# EAGLE library part XBP9B-DMUT-002 (library clackboard_lib)
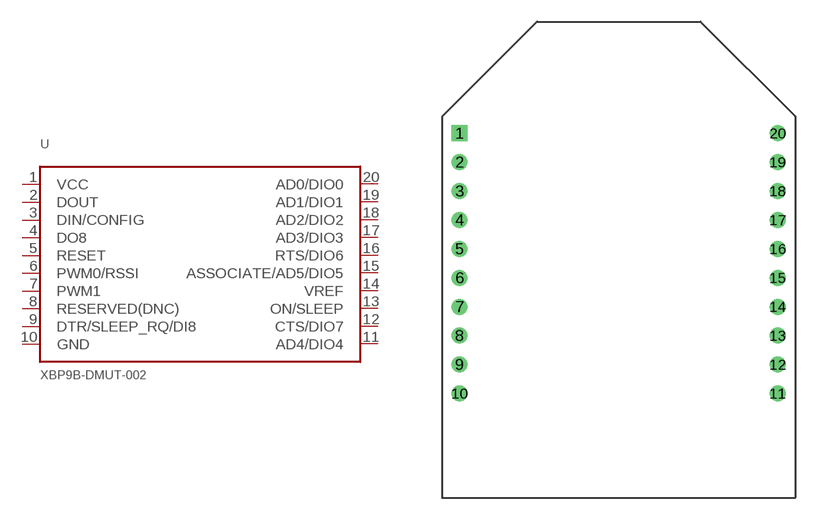
[diagram p13: symbol with the pads of XBP9B-DMUT-002; footprint XBP9B-DMUT-002]

Designator prefix U

## XBP9B-DMUT-002  [XBP9B-DMUT-002]
1  VCC
2  DOUT
3  DIN/CONFIG
4  DO8
5  RESET
6  PWM0/RSSI
7  PWM1
8  RESERVED(DNC)
9  DTR/SLEEP_RQ/DI8
10  GND
11  AD4/DIO4
12  CTS/DIO7
13  ON/SLEEP
14  VREF
15  ASSOCIATE/AD5/DIO5
16  RTS/DIO6
17  AD3/DIO3
18  AD2/DIO2
19  AD1/DIO1
20  AD0/DIO0

## Footprint XBP9B-DMUT-002 (pad centres in mm)
drill 0.6 square: 1 -11,18
drill 0.6: 2 -11,16; 3 -11,14; 4 -11,12; 5 -11,10; 6 -11,8; 7 -11,6; 8 -11,4; 9 -11,2; 10 -11,0; 11 11,0; 12 11,2; 13 11,4; 14 11,6; 15 11,8; 16 11,10; 17 11,12; 18 11,14; 19 11,16; 20 11,18